# Altium footprint library CONV_HLK-10M05.PcbLib: 1 footprints
Each footprint in its own frame and in the unit in brackets; x right, y up, seen from the top. Pads: shape width x height; smd on the part's side, far side on the other; paste and mask are expansions set on the pad; w line width, h text height; cw(c..) or ccw(c..) is an arc to the next point about the centre after c.
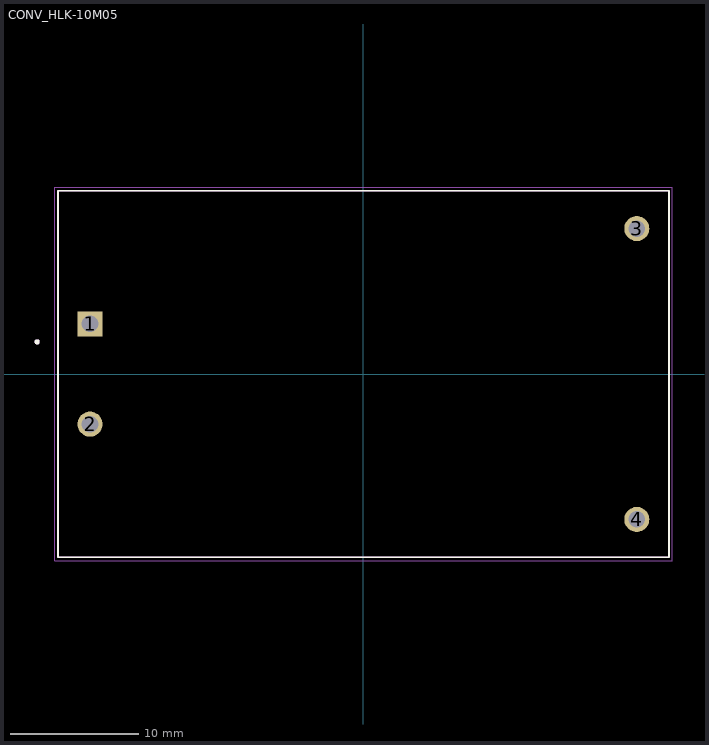
[diagram p0: the footprint, top view; thin cyan lines are the x and y axes]

## CONV_HLK-10M05 [mm]
height 22
pads (4):
  rect 1.95x1.95 / inner round 1.95 / far side rect 1.95x1.95 hole 1.3: 1(-21.25,3.9)
  round 1.95 hole 1.3: 2(-21.25,-3.9) 3(21.25,11.3) 4(21.25,-11.3)
Top Overlay:
  circle w0.2: c-25.37,2.5 r0.1
  lines w0.127: -23.75,-14.25 23.75,-14.25 23.75,14.25 -23.75,14.25 -23.75,-14.25
Mechanical 13:
  circle w0.2: c-25.37,2.5 r0.1
  lines w0.127: -23.75,-14.25 23.75,-14.25 23.75,14.25 -23.75,14.25 -23.75,-14.25
Mechanical 15:
  lines w0.05: -24,-14.5 -24,14.5 24,14.5 24,-14.5 -24,-14.5
3D body "step_temp.STEP": height 22, standoff -5, extent -23.75,-14.25 23.75,14.25